# Altium integrated library Motor Driver Board 2019-2020.IntLib: 73 symbols (part 1 of 2)
Pins are listed as number, name and electrical type; pins without a type are passive.

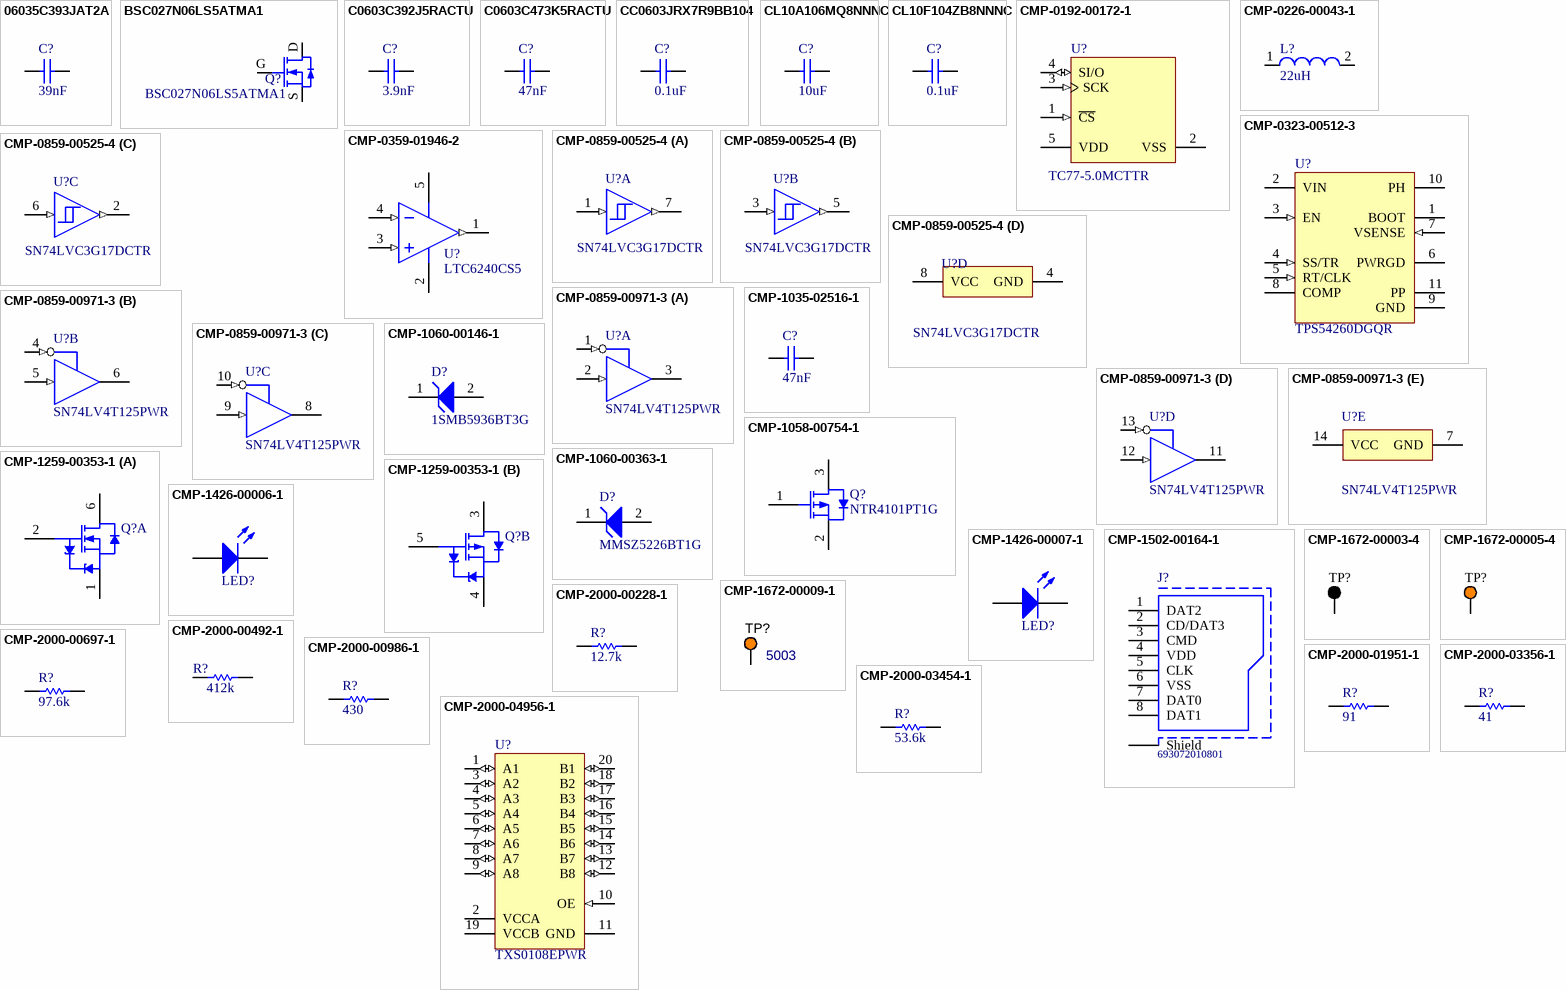
[diagram p0: symbols 06035C393JAT2A to CMP-2000-04956-1]

## 06035C393JAT2A
designator C?, comment 39nF
Ceramic Capacitor 0.039uf 50v, X7r, 5%, 0603, Full Reel; Manufacturer 1: Kyocera AVX; Manufacturer Part Number 1: 06035C393JAT2A; Dissipation Factor: 2.5%; Supplier 1: Digi-Key; Stock 1: 3075; Pricing 1: 1=0.37000, 10=0.25900, 100=0.15560, 500=0.11670, 1000=0.09854 (USD); RoHS: Yes; Mount: Surface Mount; Case/Package: 0603; Number of Pins: 2; Case Code (Imperial): 0603; Case Code (Metric): 1608; Min Operating Temperature: -55°C; Max Operating Temperature: 125°C; Capacitance: 39nF; Package Quantity: 4000; Voltage Rating: 50V; Voltage Rating (DC): 50V; Tolerance: 5%; Packaging: Tape and Reel; Dielectric: X7R; Termination: SMD/SMT; Length: 1.6mm; Width: 0.81mm; Thickness: 0.035inch; Depth: 0.81mm; Radiation Hardening: No; REACH SVHC: Unknown; ComponentLink1URL: https://datasheet.ciiva.com/208/cx7r-208430.pdf?src-supplier=Digi-Key; ComponentLink1Description: https://datasheet.ciiva.com/208/cx7r-208430.pdf?src-supplier=Digi-Key; ClassName: Throttle
footprint CAPC1608X05L (Chip Capacitor, 2-Leads, Body 1.60x0.80mm, IPC High Density)
pins: 1, 2

## BSC027N06LS5ATMA1
designator Q?
MOSFET N-CH 60V 100A 8TDSON; Manufacturer 1: Infineon; Supplier 1: Digi-Key; Manufacturer Part Number 1: BSC027N06LS5ATMA1; Stock 1: 3937; Pricing 1: 1=2.07000, 10=1.85900, 100=1.49430, 500=1.22768, 1000=1.01722 (USD); RoHS: No; ComponentLink1URL: https://www.infineon.com/dgdl/Infineon-BSC027N06LS5-DS-v02_00-EN.pdf?fileId=5546d46258fc0bc101596e1c881234d6&src-supplier=Digi-Key; ComponentLink1Description: https://www.infineon.com/dgdl/Infineon-BSC027N06LS5-DS-v02_00-EN.pdf?fileId=5546d46258fc0bc101596e1c881234d6&src-supplier=Digi-Key; ClassName: FETBridge
footprint PG-TDSON-8-7
pins: D, G, S

## C0603C392J5RACTU
designator C?, comment 3.9nF
Multilayer Ceramic Capacitors MLCC - SMD/SMT 50volts 3900pF X7R 5%; Manufacturer 1: KEMET; Manufacturer Part Number 1: C0603C392J5RACTU; Voltage Rating (DC): 50V; Dissipation Factor: 2.5%; Supplier 1: Digi-Key; Stock 1: 9639; Pricing 1: 1=0.40000, 10=0.28100, 100=0.16840, 500=0.12628, 1000=0.10663 (USD); RoHS: Yes; Mount: Surface Mount; Case/Package: 0603; Dielectric Material: Ceramic; Case Code (Metric): 1608; Case Code (Imperial): 0603; Min Operating Temperature: -55°C; Max Operating Temperature: 125°C; Capacitance: 3.9nF; Tolerance: 5%; Packaging: Tape and Reel; Dielectric: X7R; Voltage Rating: 50V; Package Quantity: 1; Termination: SMD/SMT; Length: 1.6mm; Height: 0.8mm; Depth: 0.8mm; Width: 0.031inch; Thickness: 0.034inch; Lead Pitch: 0.7mm; REACH SVHC: No SVHC; ComponentLink1URL: http://components.arrow.com/part/dataview/2089105S5980753N7429?src-supplier=Arrow; ComponentLink1Description: http://components.arrow.com/part/dataview/2089105S5980753N7429?src-supplier=Arrow; ComponentLink2URL: http://www.mouser.com/ds/2/212/KEM_C1002_X7R_SMD-1102033.pdf?src-supplier=Mouser; ComponentLink2Description: http://www.mouser.com/ds/2/212/KEM_C1002_X7R_SMD-1102033.pdf?src-supplier=Mouser; ComponentLink3URL: https://search.kemet.com/component-edge/download/datasheet/C0603C392J5RACTU.pdf?src-supplier=Digi-Key; ComponentLink3Description: https://search.kemet.com/component-edge/download/datasheet/C0603C392J5RACTU.pdf?src-supplier=Digi-Key; ComponentLink4URL: https://api.kemet.com/component-edge/download/datasheet/C0603C392J5RACTU.pdf?src-supplier=Digi-Key; ComponentLink4Description: https://api.kemet.com/component-edge/download/datasheet/C0603C392J5RACTU.pdf?src-supplier=Digi-Key; ClassName: Throttle
footprint CAPC1608X05L (Chip Capacitor, 2-Leads, Body 1.60x0.80mm, IPC High Density)
pins: 1, 2

## C0603C473K5RACTU
designator C?, comment 47nF
Multilayer Ceramic Capacitor, C Series, 0.047 - F, - 10%, X7R, 50 V, 0603 [1608 Metric] ;RoHS Compliant: Yes; Manufacturer 1: KEMET; Manufacturer Part Number 1: C0603C473K5RACTU; Voltage Rating: 50V; Dissipation Factor: 2.5%; Supplier 1: Digi-Key; Stock 1: 340857; Pricing 1: 1=0.12000, 10=0.08800, 100=0.04130, 500=0.02896, 1000=0.02397 (USD); RoHS: Yes; Mount: Surface Mount,PCB; Case/Package: 0603; Number of Pins: 2; Case Code (Metric): 1608; Case Code (Imperial): 0603; Dielectric Material: Ceramic; Min Operating Temperature: -55°C; Max Operating Temperature: 125°C; Packaging: Tape and Reel; Tolerance: 10%; Package Quantity: 1; Capacitance: 47nF; Voltage Rating (DC): 50V; Dielectric: X7R; Termination: SMD/SMT; Voltage: 50V; Length: 1.6mm; Height: 0.8mm; Width: 0.8mm; Thickness: 0.034inch; Lead Pitch: 0.7mm; Depth: 0.8mm; Radiation Hardening: No; REACH SVHC: No SVHC; ComponentLink1URL: https://datasheet.ciiva.com/6074/1776093-6074329.pdf?src-supplier=Farnell; ComponentLink1Description: https://datasheet.ciiva.com/6074/1776093-6074329.pdf?src-supplier=Farnell; ComponentLink2URL: https://datasheet.ciiva.com/28682/1851736-28682298.pdf?src-supplier=Element14; ComponentLink2Description: https://datasheet.ciiva.com/28682/1851736-28682298.pdf?src-supplier=Element14; ComponentLink3URL: https://datasheet.ciiva.com/7823/1776093-7823803.pdf?src-supplier=Element14; ComponentLink3Description: https://datasheet.ciiva.com/7823/1776093-7823803.pdf?src-supplier=Element14; ComponentLink4URL: https://datasheet.ciiva.com/18193/getdatasheetpartid-94279-18193115.pdf?src-supplier=Verical; ComponentLink4Description: https://datasheet.ciiva.com/18193/getdatasheetpartid-94279-18193115.pdf?src-supplier=Verical; ComponentLink5URL: https://datasheet.ciiva.com/7823/1776093-7823804.pdf?src-supplier=Element14; ComponentLink5Description: https://datasheet.ciiva.com/7823/1776093-7823804.pdf?src-supplier=Element14
footprint CAPC1608X05L (Chip Capacitor, 2-Leads, Body 1.60x0.80mm, IPC High Density)
pins: 1, 2

## CC0603JRX7R9BB104
designator C?, comment 0.1uF
Cap Ceramic 0.1uF 50V X7R 5% SMD 0603 125C Paper T/R; Manufacturer: Yageo; Manufacturer Part Number: CC0603JRX7R9BB104; Capacitance: 100nF; Supplier 1: Digi-Key; Stock 1: 40000; Pricing 1: 1=0.17, 10=0.12, 100=0.0562, 500=0.03942, 1000=0.03263 (USD); Mount: Surface Mount; Case/Package: 0603; Number of Pins: 2; Weight: 7.1E-05oz; Case Code (Imperial): 0603; Case Code (Metric): 1608; Min Operating Temperature: -55°C; Max Operating Temperature: 125°C; Tolerance: 5%; Dielectric: X7R; Voltage Rating: 50V; Packaging: Tape and Reel; Voltage Rating (DC): 50V; Termination: SMD/SMT; Composition: Ceramic; Length: 1.6mm; Height: 0.8mm; Width: 0.031inch; Thickness: 0.035inch; Depth: 0.8mm; Radiation Hardening: No; Lead Free: Lead Free; Halogen Free: Halogen Free; ComponentLink1URL: http://www.yageo.com/documents/recent/UPY-GPHC_X7R_6.3V-to-50V_8.pdf; ComponentLink1Description: http://www.yageo.com/documents/recent/UPY-GPHC_X7R_6.3V-to-50V_8.pdf; ClassName: 3.3V Regulator
footprint CAPC1608X05L (Chip Capacitor, 2-Leads, Body 1.60x0.80mm, IPC High Density)
simulation model Model Name (Model Description)
signal-integrity model Model Name (Model Description)
pins: 1, 2

## CL10A106MQ8NNNC
designator C?, comment 10uF
Cap Ceramic 10uF 6.3V X5R 20% SMD 0603 85C Paper T/R; Manufacturer: Samsung; Manufacturer Part Number: CL10A106MQ8NNNC; Supplier 1: Digi-Key; Stock 1: 40000; Pricing 1: 1=0.15, 10=0.11, 100=0.0515, 500=0.03614, 1000=0.02992 (USD); Mount: Surface Mount; Case/Package: 0603; Case Code (Metric): 1608; Case Code (Imperial): 0603; Contact Plating: Tin; Min Operating Temperature: -55°C; Max Operating Temperature: 85°C; Capacitance: 10uF; Tolerance: 20%; Dielectric: X5R; Package Quantity: 1; Packaging: Tape and Reel; Voltage Rating: 6.3V; Voltage: 6.3V; Length: 1.6mm; Height: 0.8mm; Width: 0.031inch; Thickness: 0.035inch; Depth: 0.8mm; Radiation Hardening: No; ComponentLink1URL: http://www.samsungsem.com/kr/support/library/product-catalog/mlcc.jsp; ComponentLink1Description: http://www.samsungsem.com/kr/support/library/product-catalog/mlcc.jsp; ComponentLink2URL: https://www.verical.com/server-webapp/html/getDatasheet?partID=357557; ComponentLink2Description: https://www.verical.com/server-webapp/html/getDatasheet?partID=357557; ComponentLink3URL: http://www1.futureelectronics.com/doc/SAMSUNG%20PASSIVE/CL05B104KQ5NNNC.pdf; ComponentLink3Description: http://www1.futureelectronics.com/doc/SAMSUNG%20PASSIVE/CL05B104KQ5NNNC.pdf; ClassName: 3.3V Regulator
footprint CAPC1608X05L (Chip Capacitor, 2-Leads, Body 1.60x0.80mm, IPC High Density)
simulation model Model Name (Model Description)
signal-integrity model Model Name (Model Description)
pins: 1, 2

## CL10F104ZB8NNNC
designator C?, comment 0.1uF
Cap Ceramic 0.1uF 50V Y5V -20% to 80% SMD 0603 85C T/R; Manufacturer: Samsung; Manufacturer Part Number: CL10F104ZB8NNNC; Capacitance: 100nF; Supplier 1: Digi-Key; Stock 1: 40000; Pricing 1: 1=0.1, 10=0.038, 100=0.0169, 500=0.01208, 1000=0.00949 (USD); Mount: Surface Mount; Case/Package: 0603; Case Code (Metric): 1608; Case Code (Imperial): 0603; Material: Ceramic; Contact Plating: Tin; Min Operating Temperature: -30°C; Max Operating Temperature: 85°C; Tolerance: 80%; Packaging: Tape and Reel; Dielectric: Y5V; Voltage Rating: 50V; Package Quantity: 1; Voltage: 50V; Length: 1.6mm; Height: 0.8mm; Depth: 0.8mm; Width: 0.031inch; Thickness: 0.035inch; Radiation Hardening: No; ComponentLink1URL: http://www1.futureelectronics.com/doc/SAMSUNG/CL10F104ZB8NNNC.pdf; ComponentLink1Description: http://www1.futureelectronics.com/doc/SAMSUNG/CL10F104ZB8NNNC.pdf; ComponentLink2URL: https://www.verical.com/server-webapp/html/getDatasheet?partID=355329; ComponentLink2Description: https://www.verical.com/server-webapp/html/getDatasheet?partID=355329; ComponentLink3URL: https://www.distrelec.biz/Web/Downloads/_e/ng/MLCC_CatalogDownload2013_ENG.pdf?mime=application%2Fpdf; ComponentLink3Description: https://www.distrelec.biz/Web/Downloads/_e/ng/MLCC_CatalogDownload2013_ENG.pdf?mime=application%2Fpdf; ComponentLink4URL: https://produktinfo.conrad.com/datenblaetter/450000-474999/456692-da-01-en-VS_KONDENSATOR_0603.pdf; ComponentLink4Description: https://produktinfo.conrad.com/datenblaetter/450000-474999/456692-da-01-en-VS_KONDENSATOR_0603.pdf
footprint CAPC1608X05L (Chip Capacitor, 2-Leads, Body 1.60x0.80mm, IPC High Density)
simulation model Model Name (Model Description)
signal-integrity model Model Name (Model Description)
pins: 1, 2

## CMP-0192-00172-1
designator U?, comment TC77-5.0MCTTR
Thermal Sensor with SPI Interface, 5-Pin SOT-23, -55°C to +125°C Temperature, Tape and Reel; Manufacturer 1: Microchip; PackageVersion: revBB, Aug-2009; DatasheetVersion: revA, Aug-2002; PackageDescription: 5-Lead Plastic Small Outline Transistor (CT) [SOT-23]; Code_IPC: SOT23-5; PackageReference: SOT-23-CT5; Manufacturer Part Number 1: TC77-5.0MCTTR
footprint SOT-23-CT5_L (SOT23, 5-Leads, Body 2.9x1.6mm, Pitch 0.95mm, Lead Span 2.7mm, IPC High Density)
footprint SOT-23-CT5_N (SOT23, 5-Leads, Body 2.9x1.6mm, Pitch 0.95mm, Lead Span 2.7mm, IPC Medium Density)
footprint SOT-23-CT5_M (SOT23, 5-Leads, Body 2.9x1.6mm, Pitch 0.95mm, Lead Span 2.7mm, IPC Low Density)
pins: 1 ~{CS} (in), 2 VSS (power), 3 SCK (in), 4 SI/O (io), 5 VDD (power)

## CMP-0226-00043-1
designator L?, comment 22uH
SMD Flat Wire High Current Inductor WE-HCI, L=22.0 µH; Manufacturer 1: Wurth Electronics; Manufacturer Part Number 1: 7443551221; Inductance: 22.0 ÂµH; ComponentLink1URL: http://www.we-online.com; ComponentLink2Description: Datasheet; PackageVersion: 2008; PackageReference: WE-HCI-1365; DatasheetVersion: ver 1, Aug-2009; PackageDescription: Inductor, 2-Leads, Body 13.2 x 12.8 mm; ComponentLink1Description: Manufacturer Link; ComponentLink2URL: http://www.we-online.de/katalog/media/pdf/7443551221.pdf; ClassName: 5V Regulator
footprint WE-HCI-1365 (Inductor, 2-Leads, Body 13.2x12.8x6.5 mm)
pins: 1, 2

## CMP-0323-00512-3
designator U?, comment TPS54260DGQR
Buck Inverting Buck-Boost Step Down Regulator with 3.5 to 60 V Input and 0.8 to 58 V Output, -40 to 150 degC, 10-Pin MSOP-PowerPAD (DGQ), Green (RoHS & no Sb/Br); Manufacturer: Texas Instruments; Vout(Min)(V): 0.8; Regulated Outputs(#): 1; Vin(Min)(V): 3.5; Topology: Buck, Inverting Buck-Boost; Vin(Max)(V): 60; Iq(Typ)(mA): 0.138; SubFamily: Step-Down Regulator; Vout(Max)(V): 58; Rating: Catalog; Iout(Max)(A): 2.5; Duty Cycle(Max)(%): 98; PartNumber: TPS54260DGQR; ComponentLink2Description: Package Specification; ComponentLink3Description: URL Link1; ComponentLink3URL: Samples URL:http://www.ti.com/product/tps54260#samples; ComponentLink1URL: http://www.ti.com/general/docs/lit/getliterature.tsp?genericPartNumber=TPS54260&fileType=pdf; ComponentLink2URL: http://www.ti.com/lit/ml/mpds043e/mpds043e.pdf; PackageReference: DGQ0010D; PackageDescription: 10-Pin PowerPAD Plastic Small Outline 0.5 mm Pitch, Exposed Pad; ComponentLink1Description: Datasheet; PackageVersion: revF, Nov-2011; Mounting Technology: Surface Mount; Eco-Plan: Green (RoHS & no Sb/Br); Code_JEDEC: MO-187-BA-T; DatasheetVersion: SLVSA86A; Switch Current Limit(Typ)(A): 3.5; ClassName: 5V Regulator; Manufacturer 1: Texas Instruments; Manufacturer Part Number 1: TPS54260DGQR
footprint DGQ0010D_N (TSOP, 10-Leads, Body 3.1x3.1mm, Pitch 0.5mm, Thermal Pad 1.88x1.57mm, IPC Medium Density)
footprint DGQ0010D_M (TSOP, 10-Leads, Body 3.1x3.1mm, Pitch 0.5mm, Thermal Pad 1.88x1.57mm, IPC Low Density)
footprint DGQ0010D_L (TSOP, 10-Leads, Body 3.1x3.1mm, Pitch 0.5mm, Thermal Pad 1.88x1.57mm, IPC High Density)
pins: 1 BOOT "A bootstrap capacitor is required between BOOT and PH. If the voltage on this capacitor is below the minimum required by the output device, the output is forced to switch off until the capacitor is refreshed.", 2 VIN (power) "Input supply voltage, 3.5 V to 60 V.", 3 EN (in) "Enable pin, internal pull-up current source. Pull below 1.2V to disable. Float to enable. Adjust the input undervoltage lockout with two resistors.", 4 SS/TR (in) "Slow-start and Tracking. An external capacitor connected to this pin sets the output rise time. Since the voltage on this pin overrides the internal reference, it can be used for tracking and sequencing.", 5 RT/CLK (in) "Resistor Timing and External Clock. An internal amplifier holds this pin at a fixed voltage when using an external resistor to ground to set the switching frequency. If the pin is pulled above the PLL upper threshold, a mode (See Datasheet)", 6 PWRGD (oc) "An open drain output, asserts low if output voltage is low due to thermal shutdown, dropout, over-voltage or EN shut down.", 7 VSENSE (in) "Inverting node of the transconductance ( gm) error amplifier.", 8 COMP "Error amplifier output, and input to the output switch current comparator. Connect frequency compensation components to this pin.", 9 GND (power) "Ground", 10 PH (power) "The source of the internal high-side power MOSFET.", 11 PP (power) "GND pin must be electrically connected to the exposed pad on the printed circuit board for proper operation."

## CMP-0359-01946-2
designator U?, comment LTC6240CS5
Single Channel, Low Noise, CMOS Operational Amplifier, RRO, 18 MHz Typical GBW, 10 V/us Typical SR, 2.8 to 6 V, 5-Pin SOT23 (S5-5), Commercial, Pb-Free, Mini Reel; PartNumber: LTC6240CS5#TRMPBF; Manufacturer: Linear Technology; Manufacturer 1: Analog Devices / Linear Technology; Vos (mV) Typical: 0.04; Vs Max (V): 6; Vs Min (V): 2.8; Channels (#): 1; GBW (MHz) Typical: 18; SR (V/us) Typical: 10; Is (mA) Typical: 2; RevisionNote: URLs updated; ComponentLink2URL: http://cds.linear.com/docs/en/datasheet/624012fe.pdf; ComponentLink1Description: Manufacturer URL; Type: VFB; ComponentLink2Description: Datasheet; ComponentLink1URL: http://www.linear.com/; PackageDescription: 5-Lead Plastic TSOT-23, Body 1.63 x 2.90 mm, Pitch 0.95 mm; PackageReference: LT-S5-5-TSOT-23; ComponentLink3Description: Package Specification; Packing: Mini Reel; Linear Technology Part Number: LTC6240; ComponentLink3URL: http://cds.linear.com/docs/en/packaging/SOT_5_05-08-1635.pdf; DatasheetVersion: Rev. E; Mounting Technology: Surface Mount; RoHS: Pb-Free; Code_JEDEC: MO-193; ClassName: Throttle; Manufacturer Part Number 1: LTC6240CS5#TRMPBF
footprint LT-S5-5-TSOT-23_L (SOT23, 5-Leads, Body 2.90x1.63mm, Pitch 0.95mm, IPC High Density)
footprint LT-S5-5-TSOT-23_N (SOT23, 5-Leads, Body 2.90x1.63mm, Pitch 0.95mm, IPC Medium Density)
footprint LT-S5-5-TSOT-23_M (SOT23, 5-Leads, Body 2.90x1.63mm, Pitch 0.95mm, IPC Low Density)
pins: 1 OUT (out) "Output.", 2 V- (power) "Negative Supply Voltage, Usually -5V.", 3 +IN (in) "Noninverting Input.", 4 -IN (in) "Inverting Input.", 5 V+ (power) "Positive Supply Voltage, Usually 5V."

## CMP-0859-00525-4
designator U?, comment SN74LVC3G17DCTR
TRIPLE SCHMITT-TRIGGER BUFFER, DCT0008A, LARGE T&R; Manufacturer: Texas Instruments; Input Type: CMOS/TTL; Voltage(Nom)(V): 1.8,2.5,3.3,5; Sub-Family: Non-Inverting Buffer/Driver; ICC @ Nom Voltage(Max)(mA): 0.01; Output Drive (IOL/IOH)(Max)(mA): 32/-32; Rating: Catalog; VCC(Max)(V): 5.5; Output Type: CMOS; 3-State Output: No; tpd @ Nom Voltage(Max)(ns): 9.2,6.2,5.4,4.1; F @ Nom Voltage(Max)(Mhz): 150; Technology Family: LVC; Schmitt Trigger: Yes; Bits(#): 3; Logic: True; VCC(Min)(V): 1.65; PackageReference: DCT0008A; Operating Temperature Range(C): -40 to 125,-40 to 85; DatasheetVersion: SCES470E; Generic Part Number: SN74LVC3G17; Manufacturer 1: Texas Instruments; Manufacturer Part Number 1: SN74LVC3G17DCTR
footprint DCT0008A_M (SOP, 8-Leads, Body 2.9x3.2mm, Pitch 0.65mm, IPC Low Density)
footprint DCT0008A_L (SOP, 8-Leads, Body 2.9x3.2mm, Pitch 0.65mm, IPC High Density)
footprint DCT0008A_N (SOP, 8-Leads, Body 2.9x3.2mm, Pitch 0.65mm, IPC Medium Density)
part A pins: 1 1A (in), 7 1Y (out)
part B pins: 3 2A (in), 5 2Y (out)
part C pins: 2 3Y (out), 6 3A (in)
part D pins: 4 GND (power), 8 VCC (power)

## CMP-0859-00971-3
designator U?, comment SN74LV4T125PWR
Single Power Supply Quadruple Buffer GATE w/ 3-State Output CMOS Logic Level Shifter, PW0014A, LARGE T&R; Manufacturer: Texas Instruments; Bits(#): 4; VCC(Min)(V): 1.6; Logic: True; 3-State Output: Yes; Voltage(Nom)(V): 1.8,2.5,3.3,5; VCC(Max)(V): 5.5; Output Drive (IOL/IOH)(Max)(mA): 16/-16; Technology Family: LV-A; F @ Nom Voltage(Max)(Mhz): 50; Schmitt Trigger: No; tpd @ Nom Voltage(Max)(ns): 12,7,5.5,3.5; ICC @ Nom Voltage(Max)(mA): 0.02; Input Type: CMOS/TTL; Sub-Family: Single Supply Translator; Rating: Catalog; Output Type: CMOS; Generic Part Number: SN74LV4T125; PackageReference: PW0014A; DatasheetVersion: SCLS749B; Operating Temperature Range(C): -40 to 125; Manufacturer 1: Texas Instruments; Manufacturer Part Number 1: SN74LV4T125PWR
footprint PW0014A_N (SOP, 14-Leads, Body 5.1x4.5mm, Pitch 0.65mm, IPC Medium Density)
footprint PW0014A_L (SOP, 14-Leads, Body 5.1x4.5mm, Pitch 0.65mm, IPC High Density)
footprint PW0014A_M (SOP, 14-Leads, Body 5.1x4.5mm, Pitch 0.65mm, IPC Low Density)
part A pins: 1 1~{OE} (in) "Enable 1", 2 1A (in) "Input 1", 3 1Y (hiz) "Output 1"
part B pins: 4 2~{OE} (in) "Enable 2", 5 2A (in) "Input 2", 6 2Y (hiz) "Output 2"
part C pins: 8 3Y (hiz) "Output 3", 9 3A (in) "Input 3", 10 3~{OE} (in) "Enable 3"
part D pins: 11 4Y (hiz) "Output 4", 12 4A (in) "Input 4", 13 4~{OE} (in) "Enable 4"
part E pins: 7 GND (power) "Ground Pin", 14 VCC (power) "Power Pin"

## CMP-1035-02516-1
designator C?, comment 47nF
CAP 47nF 100V ±10% 0603 (1608 Metric) Thickness 1mm SMD; Manufacturer 1: KEMET; Manufacturer Part Number 1: C0603C473K1RAC; Case-Metric: 1608; Case-EIA: 0603; Tolerance: Â±10%; Rated Voltage: 100 V; Value: 47nF; Max Thickness: 1 mm; Technology: SMT; Manufacturer 2: KEMET; Manufacturer Part Number 2: C0603C473K1RACTU
footprint CAPC0603(1608)100_N (Chip Capacitor, Body 1.6x0.8mm, Height 1.0mm, IPC Medium Density)
footprint CAPC0603(1608)100_M (Chip Capacitor, Body 1.6x0.8mm, Height 1.0mm, IPC Low Density)
footprint CAPC0603(1608)100_L (Chip Capacitor, Body 1.6x0.8mm, Height 1.0mm, IPC High Density)
pins: 1, 2
1 alternate drawing of the same symbol

## CMP-1058-00754-1
designator Q?, comment NTR4101PT1G
Trench Power MOSFET, -20 V, Single P-Channel, 3-Pin SOT-23, Pb-Free, Tape and Reel; Manufacturer: On Semiconductor; Crss Typ (pF): 75; VGS(th) Max (V): 1.2; VGS Max (V): 8; V(BR)DSS Min (V): 20; Channel Polarity: P Channel; Ciss Typ (pF): 675; Coss Typ (pF): 100; Qrr Typ (nC): 1008; ID Max (A): 3.2; ComponentLink2URL: http://www.onsemi.cn/pub_link/Collateral/NTR4101P-D.PDF; Package Type: SOT-23-3; Packing: Tape and Reel; ComponentLink3Description: Package Specification; ComponentLink1Description: Manufacturer URL; PackageDescription: 3-Pin Small Outline Transistor, Body 2.92 x 1.3 mm, Pitch 0.95 mm; ComponentLink3URL: http://www.onsemi.cn/pub_link/Collateral/318-08.PDF; ComponentLink2Description: Datasheet; PartNumber: NTR4101PT1G; Configuration: Single; Mounting Technology: Surface Mount; ComponentLink1URL: http://www.onsemi.com/; PackageVersion: Rev. AP, 11/2009; RoHS: Pb-Free; DatasheetVersion: Rev. 9; PackageReference: SOT-23-3-318-08; Manufacturer 1: ON Semiconductor; Manufacturer Part Number 1: NTR4101PT1G
footprint ONSC-SOT-23-3-318-08_V (SOT23, 3-Leads, Body 2.92x1.3mm, Pitch 0.95mm)
pins: 1 G, 2 S, 3 D

## CMP-1060-00146-1
designator D?, comment 1SMB5936BT3G
3 W Zener Voltage Regulator, 2-Pin SMB, Pb-Free, Tape and Reel; Manufacturer: On Semiconductor; VZ Typ (V): 30; ComponentLink2Description: Datasheet; ComponentLink1Description: Manufacturer URL; Packing: Tape and Reel; ComponentLink1URL: http://www.onsemi.com/; ComponentLink2URL: http://www.onsemi.com/pub_link/Collateral/1SMB5913BT3-D.PDF; ComponentLink3Description: Package Specification; PackageReference: SMB-2-403A-03_H; RoHS: Pb-Free; PackageDescription: 2-Pin Small Molded Package, J-Bend Lead, Body 4.33 x 3.625 mm; PackageVersion: Rev. H, 05/2011; PartNumber: 1SMB5936BT3G; ComponentLink3URL: http://www.onsemi.com/pub_link/Collateral/1SMB5913BT3-D.PDF; DatasheetVersion: Rev. 8; Mounting Technology: Surface Mount; ClassName: FETBridge; Manufacturer 1: ON Semiconductor; Manufacturer Part Number 1: 1SMB5936BT3G
footprint ONSC-SMB-2-403A-03_H_V (Molded, 2-Leads, Body 4.6x3.95mm)
pins: 1 K, 2 A

## CMP-1060-00363-1
designator D?, comment MMSZ5226BT1G
Zener Voltage Regulator, 500 mW, 2-Pin SOD-123, Pb-Free, Tape and Reel; Manufacturer: On Semiconductor; P Max (W): 0.5; VZ Typ (V): 3.3; PartNumber: MMSZ5226BT1G; ComponentLink1Description: Manufacturer URL; ComponentLink3URL: http://www.onsemi.com/pub_link/Collateral/425-04.PDF; ComponentLink3Description: Package Specification; ComponentLink2Description: Datasheet; ComponentLink1URL: http://www.onsemi.com/; Mounting Technology: Surface Mount; Packing: Tape and Reel; PackageDescription: 2-Pin SOD, Body 1.6 x 2.69 mm; ComponentLink2URL: http://www.onsemi.com/pub_link/Collateral/MMSZ5221BT1-D.PDF; RoHS: Pb-Free; PackageVersion: Rev. G, 10/2009; PackageReference: SOD-123-2-425-04; DatasheetVersion: Rev. 12; Manufacturer 1: ON Semiconductor; Manufacturer Part Number 1: MMSZ5226BT1G
footprint ONSC-SOD-123-2-425-04_V (SOD, 2-Leads, Body 2.69x1.6mm)
pins: 1 K, 2 A

## CMP-1259-00353-1
designator Q?, comment NX3008CBKV,115  (value not drawn)
N/P-Channel Trench MOSFET, 30 / -30 V, 400 / -220 mA, -55 to 150 degC, 6-Pin SOT666, Tape and Reel; Manufacturer: NXP Semiconductors; Manufacturer Part Number 1: NX3008CBKV115; Channel Type: N/P; Automotive Qualified: Y; Packing: Tape & Reel; ComponentLink2URL: http://www.nxp.com/documents/data_sheet/NX3008CBKV.pdf; ComponentLink1Description: Manufacturer URL; ComponentLink3Description: Package Specification; PartNumber: NX3008CBKV,115; PackageReference: SOT666; DatasheetVersion: Rev. 1; ComponentLink3URL: http://www.nxp.com/documents/outline_drawing/sot666_po.pdf; Mounting Technology: Surface Mount; ComponentLink1URL: http://www.nxp.com/; ComponentLink2Description: Datasheet; PackageVersion: 06-03-16, 03/2006; PackageDescription: 6-Pin Small Outline Transistor Package, Body 1.6 x 1.2 mm, Pitch 0.5 mm; Manufacturer 1: NXP Semiconductors
footprint NXP-SOT666_M (SOT23, 6-Leads, Body 1.7x1.3mm, Pitch 0.5mm, IPC Low Density)
footprint NXP-SOT666_L (SOT23, 6-Leads, Body 1.7x1.3mm, Pitch 0.5mm, IPC High Density)
footprint NXP-SOT666_N (SOT23, 6-Leads, Body 1.7x1.3mm, Pitch 0.5mm, IPC Medium Density)
part A pins: 1 S1 "source TR1", 2 G1 "gate TR1", 6 D1 "drain TR1"
part B pins: 3 D2 "drain TR2", 4 S2 "source TR2", 5 G2 "gate TR2"

## CMP-1426-00006-1
designator LED?, comment 150060VS75000  (value not drawn)
SMD mono-color Chip LED, WL-SMCW, Bright Green; Manufacturer: Wuerth Elektronik; Manufacturer 1: Wurth Electronics; ComponentLink2URL: http://katalog.we-online.com/led/datasheet/150060VS75000.pdf; ComponentLink1Description: Manufacturer URL; PackageReference: 0603_A; PartNumber: 150060VS75000; ComponentLink2Description: Datasheet; ComponentLink1URL: http://www.we-online.com; Color: Bright Green; Manufacturer Part Number 1: 150060VS75000
footprint 0603_A (Chip LED, 2-Leads, Body 1.6x0.8mm, IPC Medium Density)
pins: 1 K, 2 A

## CMP-1426-00007-1
designator LED?, comment 150080GS75000  (value not drawn)
SMD mono-color Chip LED, WL-SMCW, Green; Manufacturer: Wuerth Elektronik; Manufacturer 1: Wurth Electronics; PackageReference: 0805_A; Color: Green; PartNumber: 150080GS75000; ComponentLink2URL: http://katalog.we-online.com/led/datasheet/150080GS75000.pdf; ComponentLink1URL: http://www.we-online.com; ComponentLink1Description: Manufacturer URL; ComponentLink2Description: Datasheet; Manufacturer Part Number 1: 150080GS75000
footprint 0805_A (Chip LED, 2-Leads, Body 2.0x1.3mm, IPC Medium Density)
pins: 1 K, 2 A

## CMP-1502-00164-1
designator J?, comment 693072010801
WR-CRD Micro SD Card Connector, Hinge Type; Manufacturer: Wurth Elektronik; Manufacturer 1: Wurth Electronics; Withstanding Voltage: 500VAC; Rated Current: 0.5A; Working Voltage: 100VAC; Datasheet URL: https://katalog.we-online.de/em/datasheet/693072010801.pdf; Part Number: 693072010801; Publisher: WurthElektronik; Manufacturer URL: http://www.we-online.de; Mounting Technology: SMT; Package Reference: 693072010801; Packaging: TapeandReel; Operating Temperature: -25to85degC; Manufacturer Part Number 1: 693072010801
footprint 693072010801 (Micro SD Card Connector Hinge - 8 Pins)
pins: 1 DAT2, 2 CD/DAT3, 3 CMD, 4 VDD, 5 CLK, 6 VSS, 7 DAT0, 8 DAT1, Shield

## CMP-1672-00003-4
designator TP?, comment 5011  (value not drawn)
Test Point, Black, Through Hole, RoHS, Bulk; Manufacturer: Keystone; Manufacturer 1: Keystone Electronics; ComponentLink2URL: http://www.keyelco.com/product-pdf.cfm?p=1320; Colour: Black; Pins: 1; REACH SVHC: No SVHC; ComponentLink1URL: http://www.keyelco.com/; PackageReference: 5011; Contact Plating: Silver; Package Quantity: 100; Packaging: Bulk; RoHSCompliant: true; Height: 8.12 mm; PackageDescription: 1-Pin Through Hole Device, Dia 3.17 mm; Mount: Through Hole; Mounting Technology: Through Hole; DatasheetVersion: Rev. F, 12/2013; ComponentLink1Description: Manufacturer URL; Contact Material: Bronze; ComponentLink2Description: Datasheet; Manufacturer Part Number 1: 5011
footprint KSTN-5011_V (Test Point, Dia 3.17mm)
pins: 1

## CMP-1672-00005-4
designator TP?, comment 5013  (value not drawn)
Test Point, Orange, Through Hole, RoHS, Bulk; Manufacturer: Keystone; Manufacturer 1: Keystone Electronics; REACH SVHC: No SVHC; ComponentLink2Description: Datasheet; PackageDescription: 1-Pin Through Hole Device, Dia 3.17 mm; Package Quantity: 100; PackageReference: 5013; Contact Material: Bronze; DatasheetVersion: Rev. F, 12/2013; ComponentLink2URL: http://www.keyelco.com/product-pdf.cfm?p=1322; Contact Plating: Silver; ComponentLink1URL: http://www.keyelco.com/; Packaging: Bulk; ComponentLink1Description: Manufacturer URL; Colour: Orange; Height: 8.12 mm; RoHSCompliant: True; Mount: Through Hole; Mounting Technology: Through Hole; ClassName: 3.3V Regulator; Manufacturer Part Number 1: 5013
footprint KSTN-5013_V (Test Point, Dia 3.17mm)
pins: 1

## CMP-1672-00009-1
designator TP?, comment 5003
Test Point, Orange, 1-Pin THD, RoHS; Manufacturer 1: Keystone Electronics; Peak Reverse Current: 600 uA; Forward Current: 3 A; Max Surge Current: 80 A; Forward Voltage: 1.08 V; Max Operating Temperature: 150 degC; PackageReference: 5003; Pins: 2; ComponentLink2URL: http://keyelco.com/userAssets/file/M65p56.pdf; PackageDescription: 1-Pin Through Hole Device, Dia 2.54 mm; Weight: 0.01 lb; Diameter: 5.3 mm; Mount: Through Hole; Package Quantity: 500; Packaging: Bulk; Min Operating Temperature: -65 degC; ComponentLink1Description: Manufacturer URL; Height: 0.25 inch; ComponentLink1URL: http://www.keyelco.com/; ComponentLink2Description: Datasheet; Width: 0.25 inch; REACH SVHC: No SVHC; RoHSCompliant: true; Radiation Hardening: No; Length: 9.5 mm; DatasheetVersion: Jun-15; Manufacturer Part Number 1: 5003
footprint KSTN-5003 (Test Point, Through Hole, Dia 2.54mm)
pins: 1

## CMP-2000-00228-1
designator R?, comment 12.7k
Manufacturer: Panasonic; Part Number: ERJ-3EKF1272V; ClassName: 5V Regulator; Manufacturer 1: Panasonic; Manufacturer Part Number 1: ERJ-3EKF1272V
footprint RESC1608X55X30LL15T15 (Chip Resistor, 2-Leads, Body 1.60x0.80mm, IPC High Density)
footprint RESC1608X55X30ML15T15 (Chip Resistor, 2-Leads, Body 1.60x0.80mm, IPC Low Density)
footprint RESC1608X55X30NL15T15 (Chip Resistor, 2-Leads, Body 1.60x0.80mm, IPC Medium Density)
pins: 1, 2
1 alternate drawing of the same symbol

## CMP-2000-00492-1
designator R?, comment 412k
Manufacturer: Panasonic; Part Number: ERJ-3EKF4123V; ClassName: 5V Regulator; Manufacturer 1: Panasonic; Manufacturer Part Number 1: ERJ-3EKF4123V
footprint RESC1608X55X30LL15T15 (Chip Resistor, 2-Leads, Body 1.60x0.80mm, IPC High Density)
footprint RESC1608X55X30ML15T15 (Chip Resistor, 2-Leads, Body 1.60x0.80mm, IPC Low Density)
footprint RESC1608X55X30NL15T15 (Chip Resistor, 2-Leads, Body 1.60x0.80mm, IPC Medium Density)
pins: 1, 2
1 alternate drawing of the same symbol

## CMP-2000-00697-1
designator R?, comment 97.6k
Manufacturer: Panasonic; Part Number: ERJ-3EKF9762V; Manufacturer 1: Panasonic; Manufacturer Part Number 1: ERJ-3EKF9762V
footprint RESC1608X55X30NL15T15 (Chip Resistor, 2-Leads, Body 1.60x0.80mm, IPC Medium Density)
footprint RESC1608X55X30ML15T15 (Chip Resistor, 2-Leads, Body 1.60x0.80mm, IPC Low Density)
footprint RESC1608X55X30LL15T15 (Chip Resistor, 2-Leads, Body 1.60x0.80mm, IPC High Density)
pins: 1, 2
1 alternate drawing of the same symbol

## CMP-2000-00986-1
designator R?, comment 430
Part Number: RK73B1JTTD431J; Manufacturer: KOA Speer; Manufacturer 1: KOA Speer; Manufacturer Part Number 1: RK73B1JTTD431J
footprint RESC1608X55X30LL20T10 (Chip Resistor, 2-Leads, Body 1.60x0.80mm, IPC High Density)
footprint RESC1608X55X30NL20T10 (Chip Resistor, 2-Leads, Body 1.60x0.80mm, IPC Medium Density)
footprint RESC1608X55X30ML20T10 (Chip Resistor, 2-Leads, Body 1.60x0.80mm, IPC Low Density)
pins: 1, 2
1 alternate drawing of the same symbol

## CMP-2000-01951-1
designator R?, comment 91
Part Number: RG1608N-910-B-T5; Manufacturer: Susumu; Manufacturer 1: Susumu; Manufacturer Part Number 1: RG1608N-910-B-T5
footprint RESC1608X50X30NL20T20 (Chip Resistor, 2-Leads, Body 1.60x0.80mm, IPC Medium Density)
footprint RESC1608X50X30ML20T20 (Chip Resistor, 2-Leads, Body 1.60x0.80mm, IPC Low Density)
footprint RESC1608X50X30LL20T20 (Chip Resistor, 2-Leads, Body 1.60x0.80mm, IPC High Density)
pins: 1, 2
1 alternate drawing of the same symbol

## CMP-2000-03356-1
designator R?, comment 41
Manufacturer: Vishay Dale; Part Number: CRCW060343R0JNEA; Manufacturer 1: Vishay Dale; Manufacturer Part Number 1: CRCW060343R0JNEA
footprint RESC1609X50X30ML10T20 (Chip Resistor, 2-Leads, Body 1.55x0.85mm, IPC Low Density)
footprint RESC1609X50X30NL10T20 (Chip Resistor, 2-Leads, Body 1.55x0.85mm, IPC Medium Density)
footprint RESC1609X50X30LL10T20 (Chip Resistor, 2-Leads, Body 1.55x0.85mm, IPC High Density)
pins: 1, 2
1 alternate drawing of the same symbol

## CMP-2000-03454-1
designator R?, comment 53.6k
Manufacturer: Vishay Dale; Part Number: CRCW060353K6FKEA; Manufacturer 1: Vishay; ClassName: 5V Regulator; Manufacturer Part Number 1: CRCW060353K6FKEA
footprint RESC1609X50X30ML10T20 (Chip Resistor, 2-Leads, Body 1.55x0.85mm, IPC Low Density)
footprint RESC1609X50X30LL10T20 (Chip Resistor, 2-Leads, Body 1.55x0.85mm, IPC High Density)
footprint RESC1609X50X30NL10T20 (Chip Resistor, 2-Leads, Body 1.55x0.85mm, IPC Medium Density)
pins: 1, 2
1 alternate drawing of the same symbol

## CMP-2000-04956-1
designator U?, comment TXS0108EPWR
Bidirectional Voltage-Level Translator for Open-Drain and Push-Pull Application, 8 bit, 1.2 to 3.6 V, -40 to 85 degC, 20-Pin TSSOP, Green (RoHS & no Sb/Br), Tape and Reel; Manufacturer: Texas Instruments; Logic Type: VoltageLevelTranslator; Output Current: 620µA; Propagation Delay: 4.8ns; Supply Voltage Min: 1.2V; No. of Inputs: 8; Supply Voltage Max: 5.5V; SVHC: NoSVHC(16-Jun-2014); No. of Pins: 20; Datasheet URL: https://datasheet.ciiva.com/14287/txs0108e-14287280.pdf; Operating Temperature Min: -40degC; Logic Case Style: TSSOP; Packaging: CutTape; Datasheet Version: Rev. B, 09/2008; MSL: MSL1-Unlimited; Manufacturer URL: http://www.ti.com/; Operating Temperature Max: 85degC; Manufacturer 1: Texas Instruments; Manufacturer Part Number 1: TXS0108EPWR
footprint PW0020A_M (SOP, 20-Leads, Body 6.6x4.5mm, Pitch 0.65mm, IPC Low Density)
footprint PW0020A_N (SOP, 20-Leads, Body 6.6x4.5mm, Pitch 0.65mm, IPC Medium Density)
footprint PW0020A_L (SOP, 20-Leads, Body 6.6x4.5mm, Pitch 0.65mm, IPC High Density)
pins: 1 A1 (io), 2 VCCA (power), 3 A2 (io), 4 A3 (io), 5 A4 (io), 6 A5 (io), 7 A6 (io), 8 A7 (io), 9 A8 (io), 10 OE (in), 11 GND (power), 12 B8 (io), 13 B7 (io), 14 B6 (io), 15 B5 (io), 16 B4 (io), 17 B3 (io), 18 B2 (io), 19 VCCB (power), 20 B1 (io)

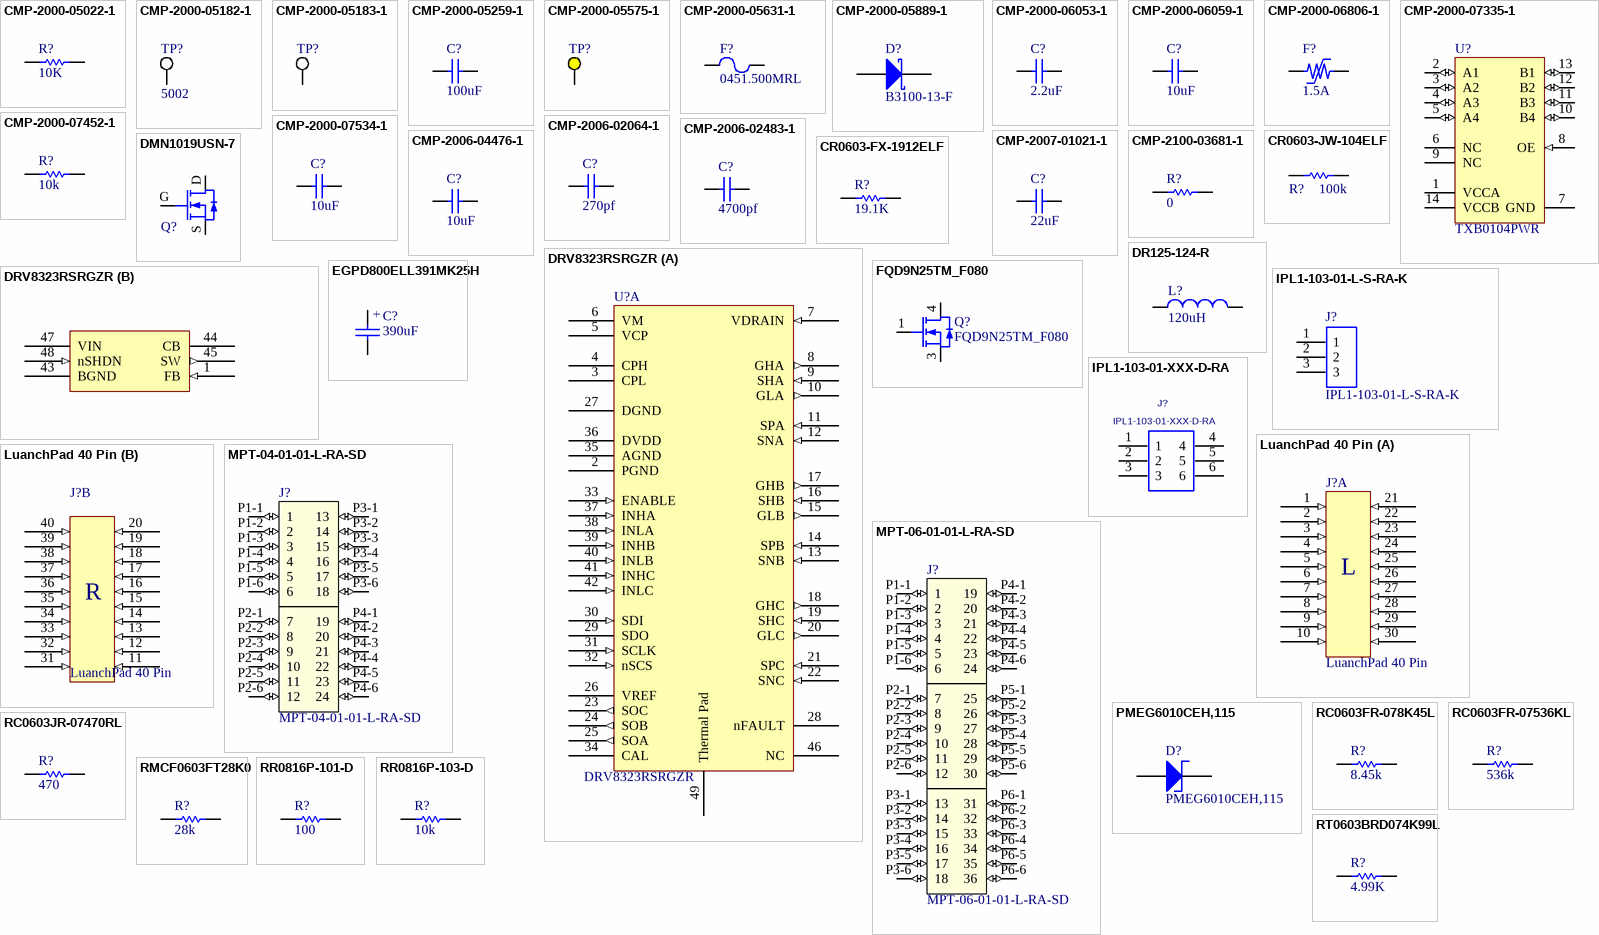
[diagram p1: symbols CMP-2000-05022-1 to RT0603BRD074K99L]

## CMP-2000-05022-1
designator R?, comment 10K
Resistor, 10 KOhm, +/- 5%, 100 mW, -55 to 155 degC, 0603 (1608 Metric), RoHS, Tape and Reel; Manufacturer: Yageo; Manufacturer Part Number 1: RC0603JR-0710KL; Resistance: 10kOhms; Voltage Rating: 50V; Temperature Coefficient: 100PPM/C; Power Rating: 100mW; Package Reference: 603; Series: RC; Case Code - mm: 1608; Packaging: Reel; Datasheet URL: http://www.farnell.com/datasheets/443971.pdf; Datasheet Version: Rev. 4, 04/2009; Operating Temperature Range: -55Cto+155C; Product: ThickFilmResistorsGeneralPurpose; Package Description: 2-Pin Surface Mount Device, Body 1.6 x 0.8 mm; Manufacturer URL: http://www.yageo.com/; Case Code - in: 0603; Tolerance: 5%; Termination Style: SMD/SMT; ClassName: 5V Regulator; Manufacturer 1: Yageo
footprint RESC1608X55X25ML10T15 (Chip Resistor, 2-Leads, Body 1.60x0.80mm, IPC Low Density)
footprint RESC1608X55X25NL10T15 (Chip Resistor, 2-Leads, Body 1.70x0.90mm, IPC Medium Density)
footprint RESC1608X55X25LL10T15 (Chip Resistor, 2-Leads, Body 1.60x0.80mm, IPC High Density)
pins: 1, 2

## CMP-2000-05182-1
designator TP?, comment 5002
Test Point, White, 1-Pin THD, RoHS, Bulk; Manufacturer: KeystoneElectronics; Manufacturer 1: Keystone Electronics; Outside Diameter: 2.54mm; Plating: Silver; Mounting Hole Size: 1mm; Product: TestPoints; Packaging: Bulk; Manufacturer URL: http://www.keyelco.com/; Length: 7.62mm; Datasheet Version: Rev. G, 12/2008; Type: Miniature; Product Category: CircuitBoardHardware-PCB; Material: Nylon; RoHS: True; Contact Material: PhosphorBronze; Datasheet URL: https://ciiva.com/datasheet-click-2917627?src=ciiva&sig=bd195616; Color: White; Brand: KeystoneElectronics; ClassName: FETBridge; Manufacturer Part Number 1: 5002
footprint KSTN-5002 (Test Point, Through Hole, Dia 2.54mm)
pins: 1

## CMP-2000-05183-1
designator TP?, comment 5015  (value not drawn)
Test Point, White, SMT; Manufacturer: Keystone; Manufacturer 1: Keystone Electronics; Primary Type: PCBTestPoints; Style: Miniature; Finish Plating: SilverPlate; Material, Contact: PhosphorBronze; Material: PhosphorBronze; Datasheet URL: https://datasheet.ciiva.com/1123/5015-1123862.pdf; Thickness: 0.010In.; Manufacturer URL: http://www.keyelco.com/; Length: 0.105"(2.667mm); Datasheet Version: Mar-14; Contact Plating: Silver; Mounting Type: SurfaceMount; Termination: SMT; Type: TestPointsonTapeandReel; Height: 0.06In.; Mounting: SurfaceMount; ClassName: FETBridge; Manufacturer Part Number 1: 5015
footprint KSTN-5015_V (SMD, Body 2.63x1.02mm)
pins: 1

## CMP-2000-05259-1
designator C?, comment 100uF
CAP, Ceramic, 100 uF, 20%, 6.3 V, 1210, RoHS, Tape and Reel; Manufacturer: MurataElectronics; Manufacturer 1: Murata; Manufacturer Part Number 1: GRM32ER60J107ME20L; Dielectric: X5R; Voltage: 6.3Vdc; Product Depth: 2.5mm; Product Length: 3.2mm; Type: Flat; Rad Hard: No; Operating Temperature: -55to85degC; Datasheet URL: https://datasheet.ciiva.com/29199/455114-da-01-en-vs-kondensator-1210-29199468.pdf; Package/Case: 1210; Tolerance: 20%; Package Reference: 1210; Construction: Flat; Capacitance Value: 100uF; Datasheet Version: Dec-10; Product Height: 2.5mm; Package Description: 2-Pin Surface Mount Device, Body 3.2 x 2.5 mm; Mounting: SurfaceMount; Category: CapacitorCeramicMultilayer; Manufacturer URL: http://www.murata.com/; ClassName: 5V Regulator
footprint MURA-1210_H_2.7_M (Chip Capacitor, 2-Leads, Body 3.5x2.7mm, IPC Low Density)
footprint MURA-1210_H_2.7_N (Chip Capacitor, 2-Leads, Body 3.5x2.7mm, IPC Medium Density)
footprint MURA-1210_H_2.7_L (Chip Capacitor, 2-Leads, Body 3.5x2.7mm, IPC High Density)
pins: 1, 2

## CMP-2000-05575-1
designator TP?, comment 5004  (value not drawn)
Test Point, Yellow, 1-Pin THD, RoHS, Bulk; Manufacturer: Keystone; Manufacturer 1: Keystone Electronics; Package Description: 1-Pin Through Hole Device, Dia 2.54 mm; Manufacturer URL: http://www.keyelco.com/; Datasheet Version: Rev. G, 12/2008; Package Reference: 5004; Datasheet URL: http://www.keyelco.com/product-pdf.cfm?p=1313; Mounting Technology: ThroughHole; ClassName: 5V Regulator; Manufacturer Part Number 1: 5004
footprint KSTN-5004 (Test Point, Through Hole, Dia 2.54mm)
pins: 1

## CMP-2000-05631-1
designator F?, comment 0451.500MRL
Fuse, 125 V, 500 mA, -55 to 125 degC, 2-Pin SMD, RoHS, Tape and Reel; Manufacturer: Littelfuse; Working Voltage-Max: 125V; Response Characteristic: VeryFastActing; Current Rating: 0.5A; Datasheet Version: 02/2016; Package Description: 2-Pin Surface Mount Device, Body 6.1 x 2.69 mm; Package Reference: 45X; Manufacturer URL: http://www.littelfuse.com/; Mounting Technology: SurfaceMount; Size: 6.10x2.69mm; Operating Temp Range: -55to+125°C; Datasheet URL: http://www.littelfuse.com/products/fuses/surface-mount-fuses/nano-2-fuses/~/media/electronics/datasheets/fuses/littelfuse_fuse_451_453_datasheet.pdf.pdf; Manufacturer 1: Littelfuse; Manufacturer Part Number 1: 0451.500MRL
footprint LFUS-45X_V (SMD, 2-Leads, Body 6.1x2.69mm)
pins: 1, 2

## CMP-2000-05889-1
designator D?, comment B3100-13-F
High Voltage Schottky Barrier Rectifier, 100 V, 3 A, -55 to 125 degC, 2-Pin SMD, RoHS, Tape and Reel; Manufacturer: DiodesIncorporated; Manufacturer 1: Diodes; Vf - Forward Voltage: 0.79V; If - Forward Current: 3A; Ir - Reverse Current: 500uA; Unit Weight: 0.007408oz; Vrrm - Repetitive Reverse Voltage: 100V; Configuration: Single; Ifsm - Forward Surge Current: 100A; Packaging: Reel; Mounting Technology: SurfaceMount; Package / Case: SMC; Package Reference: SMC; Manufacturer URL: http://www.diodes.com/; Factory Pack Quantity: 3000; Brand: DiodesIncorporated; RoHS: True; Type: SchottkyBarrierRectifier; Height: 2.5mm; Operating Temperature Range: -55Cto+125C; Length: 7.11mm; Series: B3100; Mounting Style: SMD/SMT; Width: 6.22mm; Maximum Operating Temperature: +125C; Product Category: SchottkyDiodes&Rectifiers; Termination Style: SMD/SMT; Package Description: 2-Pin Surface Mount Device, Body 5.905 x 6.855 mm; Datasheet Version: Rev. 13-2, 09/2010; Minimum Operating Temperature: -55C; Datasheet URL: http://www.diodes.com/_files/datasheets/ds30020.pdf; Product: SchottkyDiodes; Technology: Si; ClassName: 5V Regulator; Manufacturer Part Number 1: B3100-13-F
footprint DIOD-SMC-2_V (Molded Diode, 2-Leads, Body 7.11x6.22mm)
pins: 1 A, 2 K

## CMP-2000-06053-1
designator C?, comment 2.2uF
Chip Capacitor, 2.2 uF, +/- 10%, -55 to 125 degC, 1210 (3225 Metric), RoHS, Tape and Reel; PCN Part Number: MLCCPartNumberChange30/Nov/2012; Manufacturer: TDK; Manufacturer Part Number 1: C3225X7R2A225K230AB; Capacitance: 2.2µF; Catalog Drawings: CSERIES_1210_2.5; Product Training Modules: SEAT,CCV,andTVCLDesignToolsGuidetoReplacinganElectrolyticCapacitorwithanMLCC; Other Names: 445-4497-6; Voltage - Rated: 100V; Temperature Coefficient: X7R; Featured Product: C-SeriesMidVoltageMLCCs; Online Catalog: CSeries,MidVoltage; Ratings: -; Mounting Technology: SurfaceMount; Height - Seated (Max): -; Applications: GeneralPurpose; Packaging: Digi-Reel®; Mounting Type: SurfaceMount,MLCC; Lead Spacing: -; Thickness (Max): 0.098"(2.50mm); Package Reference: 1210 (3225 Metric); Manufacturer URL: http://www.tdk.com/; Size / Dimension: 0.126"Lx0.098"W(3.20mmx2.50mm); Operating Temperature: -55°C~125°C; Datasheet URL: https://datasheet.ciiva.com/15192/getdatasheetpartid-725361-15192330.pdf; RoHS Information: RoHSCertificate-MLCC; Lead Style: -; Standard Package: 1; Family: CeramicCapacitors; Datasheet Version: 10/2014; Category: Capacitors; Tolerance: ±10%; Features: -; Series: C; Package Description: 2-Pin Surface Mount Device, Body 3.2 x 2.5 mm; Package / Case: 1210(3225Metric); Manufacturer 1: TDK
footprint CAPC3225X250X20LL40 (Chip Capacitor, 2-Leads, Body 3.60x2.80mm, IPC High Density)
footprint CAPC3225X250X20ML40 (Chip Capacitor, 2-Leads, Body 3.60x2.80mm, IPC Low Density)
footprint CAPC3225X250X20NL40 (Chip Capacitor, 2-Leads, Body 3.60x2.80mm, IPC Medium Density)
pins: 1, 2

## CMP-2000-06059-1
designator C?, comment 10uF
Chip Capacitor, 10 uF, +/- 20%, 100 V, -55 to 125 degC, 2220 (5750 Metric), RoHS, Tape and Reel; PCN Part Number: MLCCPartNumberChange30/Nov/2012; Manufacturer: TDK; Manufacturer Part Number 1: C5750X7S2A106M230KB; Other Names: 445-5212-1; Featured Product: Compact,High-CapacitanceMultilayerCeramicChipCapacitorsMidVoltageX7S-100VMLCCsC-SeriesMidVoltageMLCCs; Product Training Modules: SEAT,CCV,andTVCLDesignToolsCSeriesMidVoltageCapacitorsFamilyGuidetoReplacinganElectrolyticCapacitorwithanMLCC; Kits: 445-9009-KIT-ND-KITCAPCERHICAP100V-630VSMDSAMPLEKIT1008-ND-KITCAPCERMLCC100V-630V; Catalog Drawings: CSERIES_2220_2.5; Online Catalog: CSeries,MidVoltage; Temperature Coefficient: X7S; Voltage - Rated: 100V; Capacitance: 10µF; Package Description: SMD, 2-Leads, Body 6.1 x 5.4 mm; Manufacturer URL: http://www.tdk.com/; Size / Dimension: 0.224"Lx0.197"W(5.70mmx5.00mm); RoHS Information: RoHSCertificate-MLCC; Package Reference: C5750-2; Applications: GeneralPurpose; Datasheet Version: 09/2013; Features: -; Datasheet URL: https://datasheet.ciiva.com/24216/c5750x7s2a106m230kb-265716-24216594.pdf; Standard Package: 1; Lead Spacing: -; Family: CeramicCapacitors; Thickness (Max): 0.098"(2.50mm); Packaging: CutTape(CT); Mounting Technology: SurfaceMount; Lead Style: -; Height - Seated (Max): -; Package / Case: 2220(5750Metric); Series: C; Category: Capacitors; Ratings: -; Operating Temperature: -55°C~125°C; Mounting Type: SurfaceMount,MLCC; Tolerance: ±20%; ClassName: 5V Regulator; Manufacturer 1: TDK
footprint TDK-C5750-2_L (SMD, 2-Leads, Body 6.1x5.4mm, IPC High Density)
footprint TDK-C5750-2_M (SMD, 2-Leads, Body 6.1x5.4mm, IPC Low Density)
footprint TDK-C5750-2_N (SMD, 2-Leads, Body 6.1x5.4mm, IPC Medium Density)
pins: 1, 2

## CMP-2000-06806-1
designator F?, comment 1.5A
PolySwitch Resettable Device, 6 V, 1.5 A, -40 to 85 degC, 2-Pin SMD, RoHS, Tape and Reel; Part No: NANOSMDC150F-2; Manufacturer: TEConnectivity/CircuitProtection; Manufacturer 1: TE Connectivity; Agency Approvals: CSA,TUV,UL; Maximum Trip Time: 0.3@8As; Lead Diameter: N/R; Maximum Current Rating: 100A; Trip Current: 3A; Maximum Voltage Rating: 6VDC; Typical Power Dissipation: 0.8(Max)W; Minimum Initial Resistance: 0.04Ohm; Maximum Post Trip Resistance: 0.11Ohm; RoHS: Yes; Dimension: 3.4(Max)x1.8(Max)x0.89(Max)mm; Datasheet URL: http://www.te.com/commerce/DocumentDelivery/DDEController?Action=showdoc&DocId=Catalog+Section%7FCLP00010%7FA%7Fpdf%7FEnglish%7FENG_CS_CLP00010_A_CLP00010.pdf%7FRF1359-000; Manufacturer URL: http://www.te.com/; Datasheet Version: 11/2013; Package Description: 2-Pin Surface Mount Device, Body 3.2 x 1.585 mm; Family: NANOSMD; Applications: N/A; Packaging: TapeandReel; Mounting: SurfaceMount; Seated Plane Height: N/R; Package Reference: NANOSMDC150F-2; Package/Case: 1206; Wire Form: N/R; Number of Terminals: 2; Hold Current: 1.5A; Terminal Pitch: N/A; Maximum Initial Resistance: N/A; Operating Temperature: 85(Max)C; Mounting Technology: SurfaceMount; Manufacturer Part Number 1: NANOSMDC150F-2
footprint TECO-NANOSMDC150F-2_V (SMD, 2-Leads, Body 3.2x1.585mm)
pins: 1, 2

## CMP-2000-07335-1
designator U?, comment TXB0104PWR
4-Bit Bidirectional Voltage-Level Translator with Automatic Direction Sensing and +/- 15-kV ESD Protection, -40 to 85 degC, 14-Pin TSSOP (PW), Green (RoHS & Sb/Br), Tape and Reel; Manufacturer: Texas Instruments; Dynamic Catalog: TXBSeries; Number of Bits: 4; Voltage - Supply: 1.2V~3.6V,1.65V~5.5V; Other Names: 296-21929-6; Propagation Delay (Max): 4ns; Logic Function: Translator,Bidirectional; Data Rate: 100Mbps; Differential - Input: Output:No/No; Number of Outputs/Channel: 1; Output Type: Logic; Product Training Modules: VoltageLevelTranslation; Number of Channels: 4; Package Reference: PW14; Package Description: 14-Pin Thin Shrink Small Outline Package, Body 5 x 4.4 mm, Pitch 0.65 mm; Datasheet Version: Rev. G, 11/2014; Manufacturer URL: http://www.ti.com/; Series: -; Packaging: Digi-Reel®; Mounting Technology: SurfaceMount; Family: Logic-Translators; Standard Package: 1; Category: IntegratedCircuits(ICs); Supplier Device Package: 14-TSSOP; Datasheet URL: http://www.ti.com/general/docs/lit/getliterature.tsp?genericPartNumber=TXB0104&fileType=pdf; Operating Temperature: -40°C~85°C; Input Type: Logic; Package / Case: 14-TSSOP(0.173",4.40mmWidth); Manufacturer 1: Texas Instruments; Manufacturer Part Number 1: TXB0104PWR
footprint PW0014A_L (SOP, 14-Leads, Body 5.1x4.5mm, Pitch 0.65mm, IPC High Density)
footprint PW0014A_M (SOP, 14-Leads, Body 5.1x4.5mm, Pitch 0.65mm, IPC Low Density)
footprint PW0014A_N (SOP, 14-Leads, Body 5.1x4.5mm, Pitch 0.65mm, IPC Medium Density)
pins: 1 VCCA (power) "A-port supply Voltage 1.2V=<VCCA=<3.6V and VCCA=<VCCB.", 2 A1 (io) "Input/output 1. Referenced to VCCA.", 3 A2 (io) "Input/output 2. Referenced to VCCA.", 4 A3 (io) "Input/output 3. Referenced to VCCA.", 5 A4 (io) "Input/output 4. Referenced to VCCA.", 6 NC "No connection. Not internally connected.", 7 GND (power) "Ground", 8 OE (in) "3-state output-mode enable. Pull OE low to place all outputs in 3-state mode.Referenced to VCCA.", 9 NC "No connection. Not internally connected.", 10 B4 (io) "Input/output 4. Referenced to VCCB.", 11 B3 (io) "Input/output 3. Referenced to VCCB.", 12 B2 (io) "Input/output 2. Referenced to VCCB.", 13 B1 (io) "Input/output 1. Referenced to VCCB.", 14 VCCB (power) "B-port supply Voltage 1.65V=<VCCB=<5.5V."

## CMP-2000-07452-1
designator R?, comment 10k
Chip Resistor, 10 KOhm, +/- 1%, 0.1 W, -55 to 155 degC, 0603 (1608 Metric), RoHS, Tape and Reel; Manufacturer: Panasonic; Manufacturer Part Number 1: ERJ-3EKF1002V; Voltage Rating: 75V; Case\/Package: 0603; Power Rating: 100mW; Resistance: 10KOhm; Temperature Coefficient: 100ppm\/degreesC; Number of Pins: 2; Package Reference: 603; Depth: 0.8mm; Mount: SurfaceMount; Package Description: 2-Pin Surface Mount Device, Body 1.6 x 0.85 mm; Datasheet Version: 02/2017; Length: 1.6mm; Lead Free: LeadFree; Height: 0.45mm; Number of Terminations: 2; Max Power Dissipation: 100mW; Min Operating Temperature: -55degC; Datasheet URL: https://industrial.panasonic.com/cdbs/www-data/pdf/RDA0000/AOA0000C304.pdf; Termination: SMD/SMT; Case Code (Metric): 1608; Case Code (Imperial): 0603; Tolerance: 1%; Max Operating Temperature: 155degC; RoHSCompliant: true; Voltage Rating (DC): 75V; Radiation Hardening: No; Packaging: TapeandReel; Composition: ThickFilm; Mounting Technology: SurfaceMount; Manufacturer URL: http://www.panasonic.com/; Width: 0.031inch; REACH SVHC: NoSVHC; Contact Plating: Tin; Military Standard: Not; Package Quantity: 1; ClassName: 5V Regulator; Manufacturer 1: Panasonic
footprint RESC1609X55X30LL15T15 (Chip Resistor, 2-Leads, Body 1.75x0.95mm, IPC High Density)
footprint RESC1609X55X30ML15T15 (Chip Resistor, 2-Leads, Body 1.75x0.95mm, IPC Low Density)
footprint RESC1609X55X30NL15T15 (Chip Resistor, 2-Leads, Body 1.75x0.95mm, IPC Medium Density)
pins: 1, 2

## CMP-2000-07534-1
designator C?, comment 10uF
Chip Capacitor, 10 uF, +/- 20%, 100 V, -55 to 125 degC, 2220 (5750 Metric), RoHS, Tape and Reel; Manufacturer: AVX; Manufacturer 1: Kyocera AVX; Manufacturer Part Number 1: 22201C106MAT2A; Datasheet URL: http://datasheets.avx.com/X7RDielectric.pdf; Package Reference: 2220; Package Description: 2-Pin Surface Mount Device, Body 5 x 5.7 mm; Datasheet Version: 03/2017; Manufacturer URL: http://www.avx.com/; Mounting Technology: SurfaceMount; ClassName: FETBridge
footprint CAPC5750X279X64LL40T39 (Chip Capacitor, 2-Leads, Body 6.1x5.4mm, IPC High Density)
footprint CAPC5750X279X64ML40T39 (Chip Capacitor, 2-Leads, Body 6.1x5.4mm, IPC Low Density)
footprint CAPC5750X279X64NL40T39 (Chip Capacitor, 2-Leads, Body 6.1x5.4mm, IPC Medium Density)
pins: 1, 2